# EAGLE library part L293DD (library L293DD)
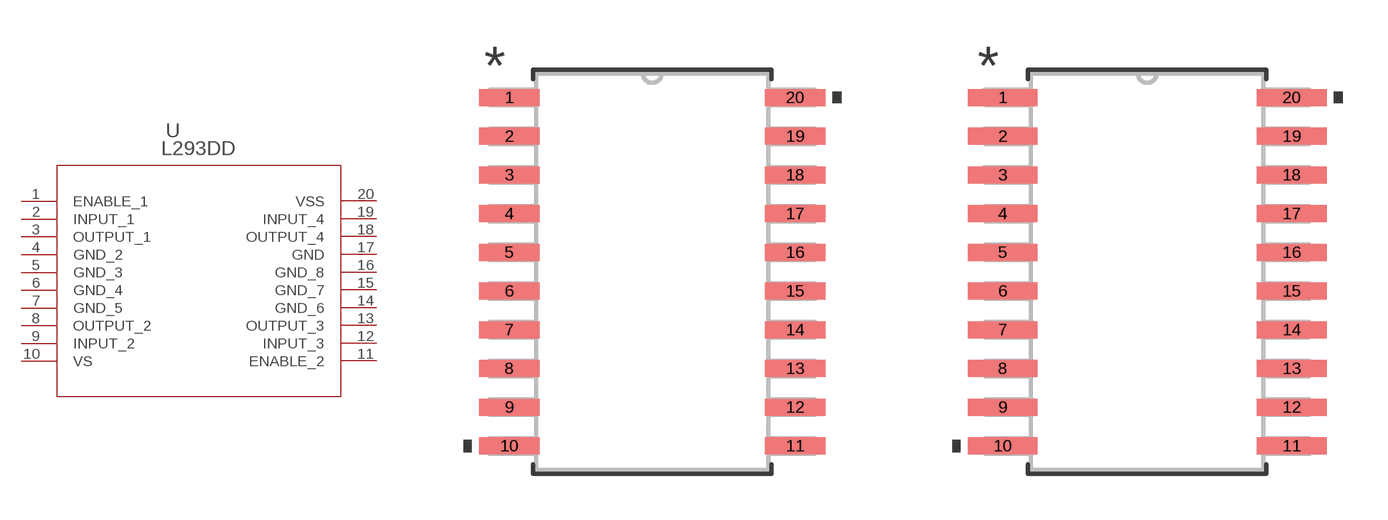
[diagram p0: symbol with the pads of SO-20_STM; footprints SO-20_STM, SO-20_STM-M]

Designator prefix U

## L293DD (COPYRIGHT: Copyright (C) 2022 Ultra Librarian. All rights reserved.; MANUFACTURER_PART_NUMBER: L293DD; MFR_NAME: STMicroelectronics)  [SO-20_STM]
1  ENABLE_1  in
2  INPUT_1  in
3  OUTPUT_1  out
4  GND_2  pas
5  GND_3  pas
6  GND_4  pas
7  GND_5  pas
8  OUTPUT_2  out
9  INPUT_2  in
10  VS  pas
11  ENABLE_2  in
12  INPUT_3  in
13  OUTPUT_3  out
14  GND_6  pas
15  GND_7  pas
16  GND_8  pas
17  GND  pas
18  OUTPUT_4  out
19  INPUT_4  in
20  VSS  pas

## L293DDSO-20_STM-M (COPYRIGHT: Copyright (C) 2022 Ultra Librarian. All rights reserved.; MANUFACTURER_PART_NUMBER: L293DD; MFR_NAME: STMicroelectronics)  [SO-20_STM-M]
Pads as for SO-20_STM

## L293DDSO-20_STM-L (COPYRIGHT: Copyright (C) 2022 Ultra Librarian. All rights reserved.; MANUFACTURER_PART_NUMBER: L293DD; MFR_NAME: STMicroelectronics)  [SO-20_STM-L]
Pads as for SO-20_STM

## Footprint SO-20_STM (pad centres in mm)
smd 1.981 x 0.559: 1 -4.686,5.715; 2 -4.686,4.445; 3 -4.686,3.175; 4 -4.686,1.905; 5 -4.686,0.635; 6 -4.686,-0.635; 7 -4.686,-1.905; 8 -4.686,-3.175; 9 -4.686,-4.445; 10 -4.686,-5.715; 11 4.686,-5.715; 12 4.686,-4.445; 13 4.686,-3.175; 14 4.686,-1.905; 15 4.686,-0.635; 16 4.686,0.635; 17 4.686,1.905; 18 4.686,3.175; 19 4.686,4.445; 20 4.686,5.715

## Footprint SO-20_STM-M (pad centres in mm)
smd 2.286 x 0.559: 1 -4.737,5.715; 2 -4.737,4.445; 3 -4.737,3.175; 4 -4.737,1.905; 5 -4.737,0.635; 6 -4.737,-0.635; 7 -4.737,-1.905; 8 -4.737,-3.175; 9 -4.737,-4.445; 10 -4.737,-5.715; 11 4.737,-5.715; 12 4.737,-4.445; 13 4.737,-3.175; 14 4.737,-1.905; 15 4.737,-0.635; 16 4.737,0.635; 17 4.737,1.905; 18 4.737,3.175; 19 4.737,4.445; 20 4.737,5.715

## Footprint SO-20_STM-L (pad centres in mm)
smd 1.676 x 0.508: 1 -4.636,5.715; 2 -4.636,4.445; 3 -4.636,3.175; 4 -4.636,1.905; 5 -4.636,0.635; 6 -4.636,-0.635; 7 -4.636,-1.905; 8 -4.636,-3.175; 9 -4.636,-4.445; 10 -4.636,-5.715; 11 4.636,-5.715; 12 4.636,-4.445; 13 4.636,-3.175; 14 4.636,-1.905; 15 4.636,-0.635; 16 4.636,0.635; 17 4.636,1.905; 18 4.636,3.175; 19 4.636,4.445; 20 4.636,5.715